# Altium footprint library EZA-EG1N50AC.PcbLib: 3 footprints
Each footprint in its own frame and in the unit in brackets; x right, y up, seen from the top. Pads: shape width x height; smd on the part's side, far side on the other; paste and mask are expansions set on the pad; w line width, h text height; cw(c..) or ccw(c..) is an arc to the next point about the centre after c.
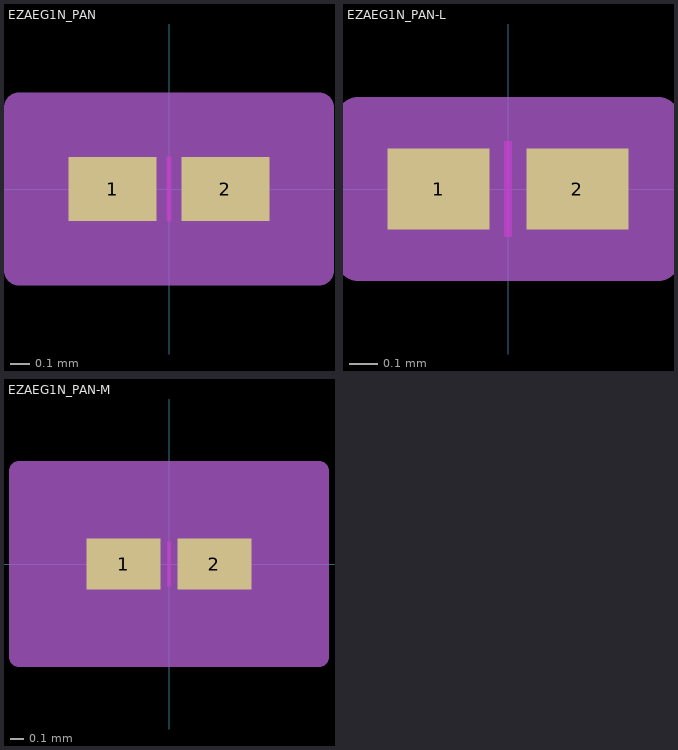
[diagram p0: the footprints below, top view; thin cyan lines are the x and y axes]

## EZAEG1N_PAN [mil]
pads (2):
  rect 17.87x13 smd paste+0 mask+0: 1(-11.44,0) 2(11.44,0)
Top Layer keep-out:
  region: -0.5,-4.5 -0.5,4.5 0.5,4.5 0.5,-4.5
Top Overlay:
  text ".Designator" at -137.5,-25 h50
Keep-Out Layer:
  region: -0.5,-6.5 -0.5,6.5 0.5,6.5 0.5,-6.5
Mechanical 13:
  lines w1: -12.5,-6.5 -12.5,6.5 ; -12.5,-6.5 -2.5,-6.5 -2.5,6.5 -12.5,6.5 ; -12.5,-6.5 12.5,-6.5 ; -12.5,-6.5 -12.5,6.5 ; -12.5,6.5 12.5,6.5 ; 12.5,-6.5 2.5,-6.5 2.5,6.5 12.5,6.5 ; 12.5,-6.5 12.5,6.5 ; 12.5,-6.5 12.5,6.5
  text ".Designator" at -137.5,-25 h50
Mechanical 15:
  region: 30.37,-16.5 -30.37,-16.5 -30.37,16.5 30.37,16.5
  lines w6: -30.37,-16.5 -30.37,16.5 30.37,16.5 30.37,-16.5 -30.37,-16.5
3D body "EZAEG1N_PAN.step": height 10, standoff 0, extent -12.52,-6.5 12.52,6.5

## EZAEG1N_PAN-L [mil]
pads (2):
  rect 13.94x11.03 smd paste+0 mask+0: 1(-9.47,0) 2(9.47,0)
Top Layer keep-out:
  region: -0.5,-4.5 -0.5,4.5 0.5,4.5 0.5,-4.5
Top Overlay:
  text ".Designator" at -137.5,-25 h50
Keep-Out Layer:
  region: -0.5,-6.5 -0.5,6.5 0.5,6.5 0.5,-6.5
Mechanical 13:
  lines w1: -12.5,-6.5 -12.5,6.5 ; -12.5,-6.5 -2.5,-6.5 -2.5,6.5 -12.5,6.5 ; -12.5,-6.5 12.5,-6.5 ; -12.5,-6.5 -12.5,6.5 ; -12.5,6.5 12.5,6.5 ; 12.5,-6.5 2.5,-6.5 2.5,6.5 12.5,6.5 ; 12.5,-6.5 12.5,6.5 ; 12.5,-6.5 12.5,6.5
  text ".Designator" at -137.5,-25 h50
Mechanical 15:
  region: 20.44,-9.52 -20.44,-9.52 -20.44,9.52 20.44,9.52
  lines w6: -20.44,-9.52 -20.44,9.52 20.44,9.52 20.44,-9.52 -20.44,-9.52
3D body "EZAEG1N_PAN.step": height 10, standoff 0, extent -12.52,-6.5 12.52,6.5

## EZAEG1N_PAN-M [mil]
pads (2):
  rect 21.81x14.97 smd paste+0 mask+0: 1(-13.41,0) 2(13.41,0)
Top Layer keep-out:
  region: -0.5,-4.5 -0.5,4.5 0.5,4.5 0.5,-4.5
Top Overlay:
  text ".Designator" at -137.5,-25 h50
Keep-Out Layer:
  region: -0.5,-6.5 -0.5,6.5 0.5,6.5 0.5,-6.5
Mechanical 13:
  lines w1: -12.5,-6.5 -12.5,6.5 ; -12.5,-6.5 -2.5,-6.5 -2.5,6.5 -12.5,6.5 ; -12.5,-6.5 12.5,-6.5 ; -12.5,-6.5 -12.5,6.5 ; -12.5,6.5 12.5,6.5 ; 12.5,-6.5 2.5,-6.5 2.5,6.5 12.5,6.5 ; 12.5,-6.5 12.5,6.5 ; 12.5,-6.5 12.5,6.5
  text ".Designator" at -137.5,-25 h50
Mechanical 15:
  region: 44.31,-27.48 -44.31,-27.48 -44.31,27.48 44.31,27.48
  lines w6: -44.31,-27.48 -44.31,27.48 44.31,27.48 44.31,-27.48 -44.31,-27.48
3D body "EZAEG1N_PAN.step": height 10, standoff 0, extent -12.52,-6.5 12.52,6.5